# EAGLE library part HEADER_18X2_SMD_1.27MM (library ck)
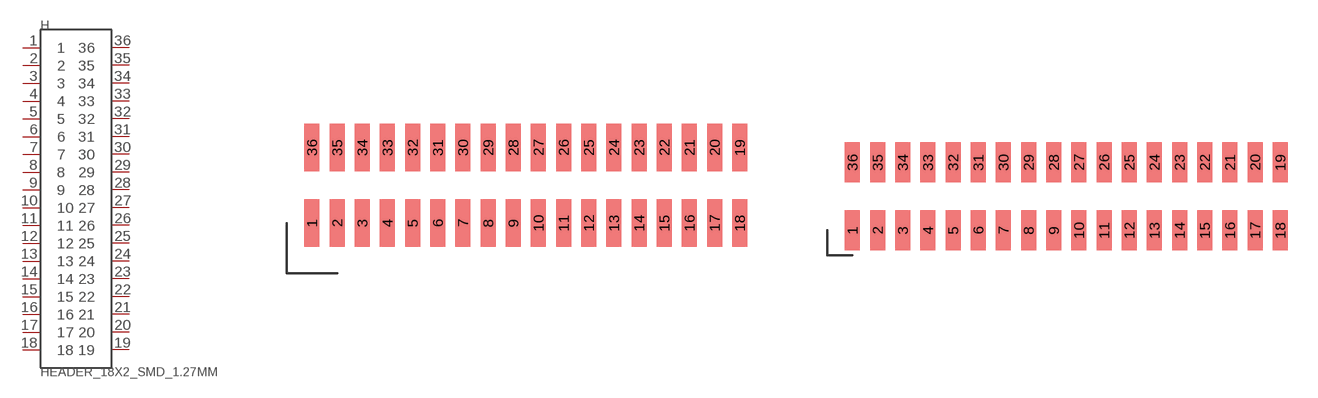
[diagram p18: symbol with the pads of HEADER_18X2_SMD_1.27MM; footprints HEADER_18X2_SMD_1.27MM, HEADER_18X2_SMD_1.27MM_RECEPTACLE]

Designator prefix H

## HEADER_18X2_SMD_1.27MMMALE, HEADER_18X2_SMD_1.27MMRECEPMALE  [HEADER_18X2_SMD_1.27MM]
1  1
2  2
3  3
4  4
5  5
6  6
7  7
8  8
9  9
10  10
11  11
12  12
13  13
14  14
15  15
16  16
17  17
18  18
19  19
20  20
21  21
22  22
23  23
24  24
25  25
26  26
27  27
28  28
29  29
30  30
31  31
32  32
33  33
34  34
35  35
36  36

## HEADER_18X2_SMD_1.27MMRECEPRECEP  [HEADER_18X2_SMD_1.27MM_RECEPTACLE]
Pads as for HEADER_18X2_SMD_1.27MM

## Footprint HEADER_18X2_SMD_1.27MM (pad centres in mm)
smd 0.76 x 2.4: 1 -10.8,-1.9; 2 -9.53,-1.9; 3 -8.26,-1.9; 4 -6.99,-1.9; 5 -5.72,-1.9; 6 -4.45,-1.9; 7 -3.18,-1.9; 8 -1.91,-1.9; 9 -0.64,-1.9; 10 0.63,-1.9; 11 1.9,-1.9; 12 3.17,-1.9; 13 4.44,-1.9; 14 5.71,-1.9; 15 6.98,-1.9; 16 8.25,-1.9; 17 9.52,-1.9; 18 10.79,-1.9; 19 10.79,1.91; 20 9.52,1.91; 21 8.25,1.91; 22 6.98,1.91; 23 5.71,1.91; 24 4.44,1.91; 25 3.17,1.91; 26 1.9,1.91; 27 0.63,1.91; 28 -0.64,1.91; 29 -1.91,1.91; 30 -3.18,1.91; 31 -4.45,1.91; 32 -5.72,1.91; 33 -6.99,1.91; 34 -8.26,1.91; 35 -9.53,1.91; 36 -10.8,1.91

## Footprint HEADER_18X2_SMD_1.27MM_RECEPTACLE (pad centres in mm)
smd 0.762 x 2.032: 1 0,0; 2 1.27,0; 3 2.54,0; 4 3.81,0; 5 5.08,0; 6 6.35,0; 7 7.62,0; 8 8.89,0; 9 10.16,0; 10 11.43,0; 11 12.7,0; 12 13.97,0; 13 15.24,0; 14 16.51,0; 15 17.78,0; 16 19.05,0; 17 20.32,0; 18 21.59,0; 19 21.59,3.429; 20 20.32,3.429; 21 19.05,3.429; 22 17.78,3.429; 23 16.51,3.429; 24 15.24,3.429; 25 13.97,3.429; 26 12.7,3.429; 27 11.43,3.429; 28 10.16,3.429; 29 8.89,3.429; 30 7.62,3.429; 31 6.35,3.429; 32 5.08,3.429; 33 3.81,3.429; 34 2.54,3.429; 35 1.27,3.429; 36 0,3.429